# Altium integrated library Motorola Audio TV Stereo Decoder.IntLib: 3 symbols
Pins are listed as number, name and electrical type; pins without a type are passive.

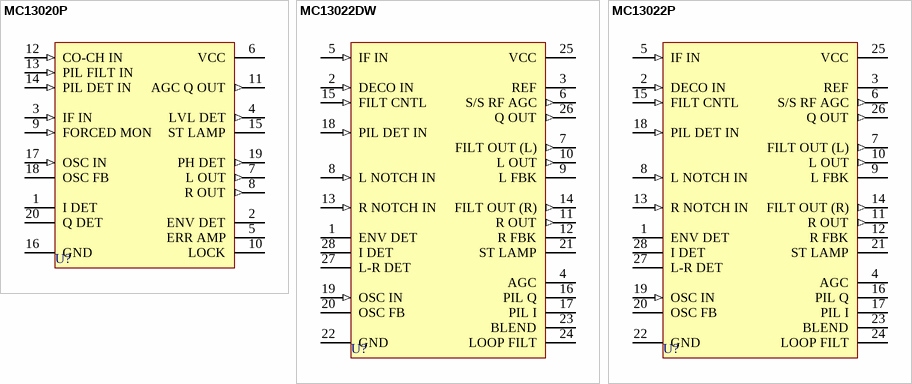
[diagram p0: symbols MC13020P to MC13022P]

## MC13020P
designator U?
C-QUAM AM Stereo Decoder; Published: 17-Jul-2002; LatestRevisionDate: 06-Jun-2005; LatestRevisionNote: Stylized 3D Model Added.; DatasheetVersion: 1988; PackageReference: 738-03; Publisher: Altium Limited; PackageDescription: DIP; 20 Leads; Row Spacing 7.62 mm; Pitch 2.54 mm; Code_JEDEC: MS-001-AD
footprint 738-03 (DIP; 20 Leads; Row Spacing 7.62 mm; Pitch 2.54 mm)
3D model 738-03 (DIP; 20 Leads; Row Spacing 7.62 mm; Pitch 2.54 mm)
pins: 1 I DET, 2 ENV DET, 3 IF IN (in), 4 LVL DET (out), 5 ERR AMP, 6 VCC (power), 7 L OUT (out), 8 R OUT (out), 9 FORCED MON (in), 10 LOCK, 11 AGC Q OUT (out), 12 CO-CH IN (in), 13 PIL FILT IN (in), 14 PIL DET IN (in), 15 ST LAMP (oc), 16 GND (power), 17 OSC IN (in), 18 OSC FB, 19 PH DET (out), 20 Q DET

## MC13022DW
designator U?
Advanced Medium Voltage AM Stereo Decoder; Published: 17-Jul-2002; LatestRevisionDate: 13-Apr-2006; LatestRevisionNote: IPC-7351 Footprint Added.; DatasheetVersion: 1988; PackageReference: 751F-02; Publisher: Altium Limited; PackageDescription: 28-Pin Small Outline Integrated Circuit 1.27 mm Pitch
footprint 751F-02_N (SOIC, 28-Leads, Body 17.9x7.5mm, Pitch 1.27mm, IPC Medium Density)
footprint 751F-02_L (SOIC, 28-Leads, Body 17.9x7.5mm, Pitch 1.27mm, IPC High Density)
footprint 751F-02_M (SOIC, 28-Leads, Body 17.9x7.5mm, Pitch 1.27mm, IPC Low Density)
3D model 751F-02 (28-Pin Small Outline Integrated Circuit 1.27 mm Pitch)
pins: 1 ENV DET, 2 DECO IN (in), 3 REF, 4 AGC, 5 IF IN (in), 6 S/S RF AGC (out), 7 FILT OUT (L) (out), 8 L NOTCH IN (in), 9 L FBK, 10 L OUT (out), 11 R OUT (out), 12 R FBK, 13 R NOTCH IN (in), 14 FILT OUT (R) (out), 15 FILT CNTL (in), 16 PIL Q, 17 PIL I, 18 PIL DET IN (in), 19 OSC IN (in), 20 OSC FB, 21 ST LAMP (oc), 22 GND (power), 23 BLEND, 24 LOOP FILT, 25 VCC (power), 26 Q OUT (out), 27 L-R DET, 28 I DET

## MC13022P
designator U?
Advanced Medium Voltage AM Stereo Decoder; Published: 17-Jul-2002; LatestRevisionDate: 06-Jun-2005; LatestRevisionNote: Stylized 3D Model Added.; DatasheetVersion: 1988; PackageReference: 710-02; Publisher: Altium Limited; PackageDescription: DIP; 28 Leads; Row Spacing 15.24 mm; Pitch 2.54 mm
footprint 710-02 (DIP; 28 Leads; Row Spacing 15.24 mm; Pitch 2.54 mm)
3D model 710-02 (DIP; 28 Leads; Row Spacing 15.24 mm; Pitch 2.54 mm)
pins: 1 ENV DET, 2 DECO IN (in), 3 REF, 4 AGC, 5 IF IN (in), 6 S/S RF AGC (out), 7 FILT OUT (L) (out), 8 L NOTCH IN (in), 9 L FBK, 10 L OUT (out), 11 R OUT (out), 12 R FBK, 13 R NOTCH IN (in), 14 FILT OUT (R) (out), 15 FILT CNTL (in), 16 PIL Q, 17 PIL I, 18 PIL DET IN (in), 19 OSC IN (in), 20 OSC FB, 21 ST LAMP (oc), 22 GND (power), 23 BLEND, 24 LOOP FILT, 25 VCC (power), 26 Q OUT (out), 27 L-R DET, 28 I DET